# Altium footprint library Capacitors SMD.PcbLib: 115 footprints (part 1 of 8)
Each footprint in its own frame and in the unit in brackets; x right, y up, seen from the top. Pads: shape width x height; smd on the part's side, far side on the other; paste and mask are expansions set on the pad; w line width, h text height; cw(c..) or ccw(c..) is an arc to the next point about the centre after c.
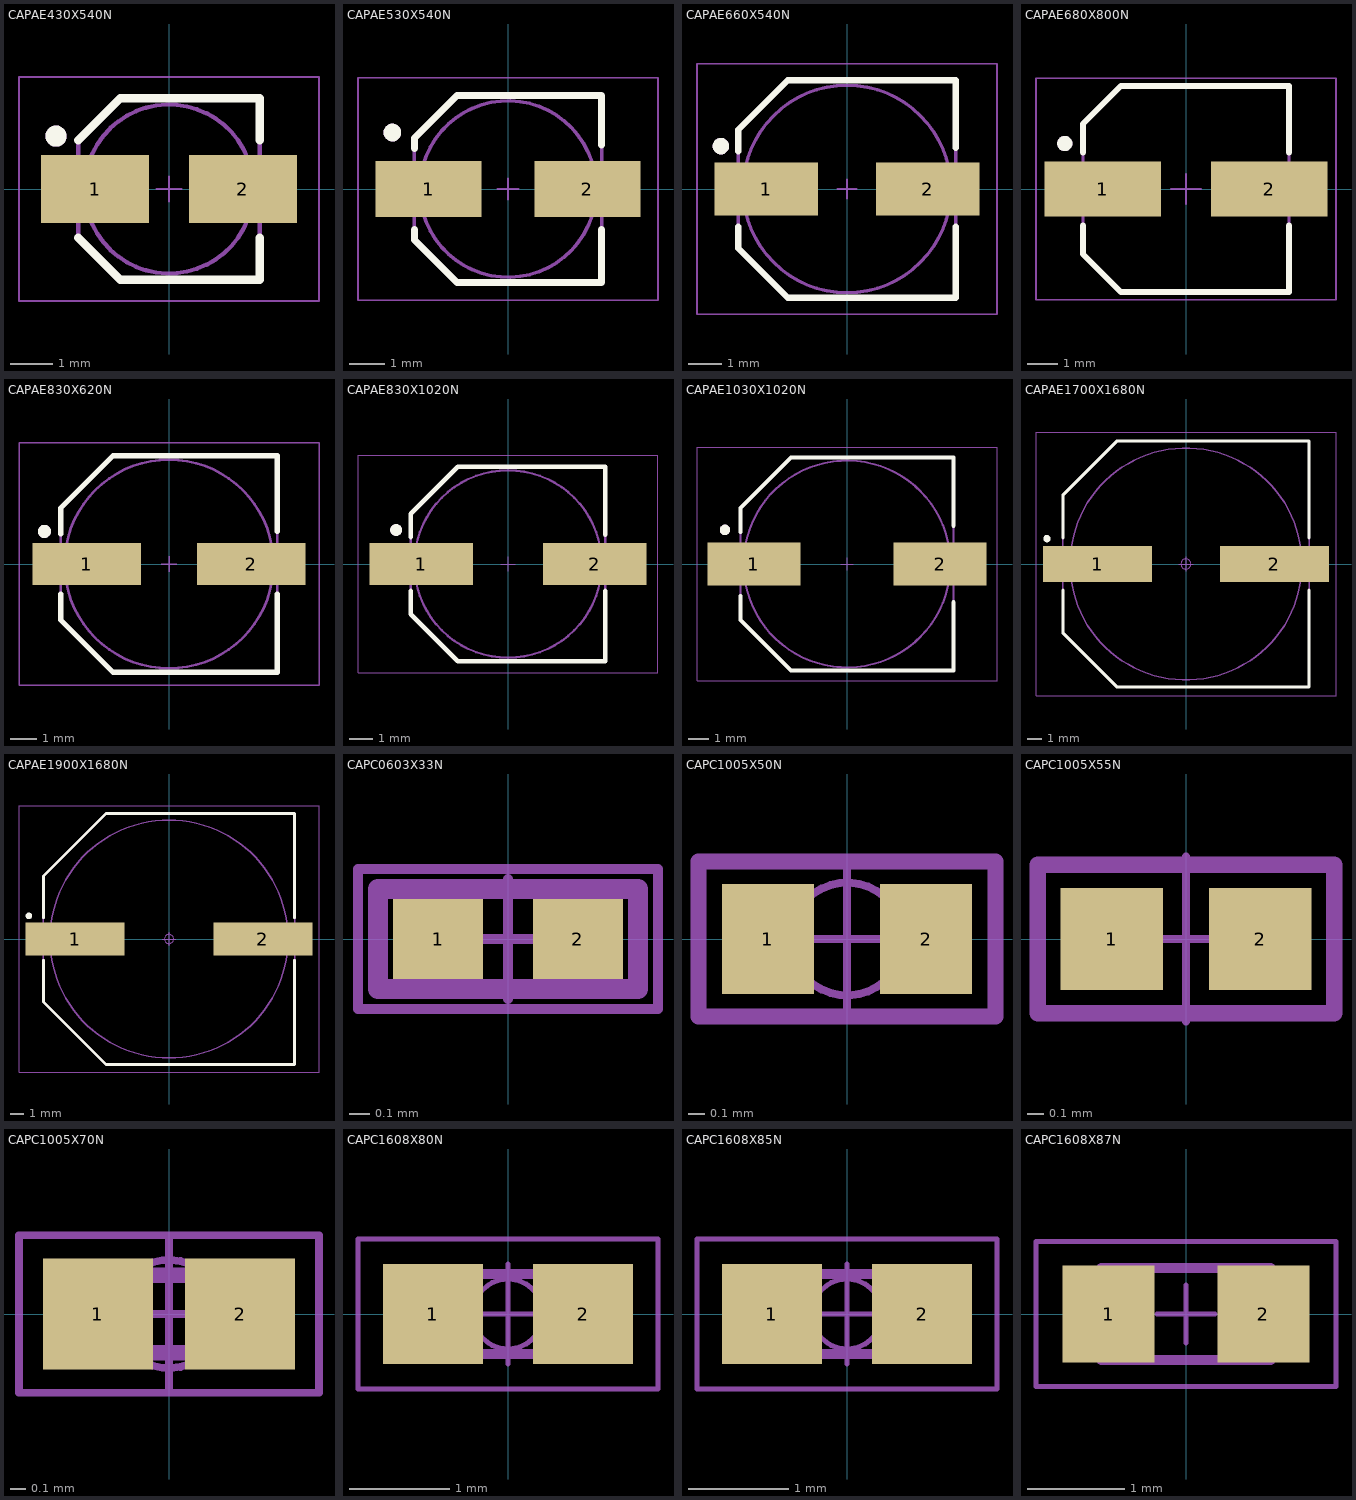
[diagram p0: the footprints below, top view; thin cyan lines are the x and y axes]

## CAPAE430X540N [mm] "Capacitor, Aluminium Electrolytric, 4.3mm L X 4.3mm W X 5.4mm H, IPC Medium Density"
height 5.4
pads (2):
  rect 2.55x1.6 smd: 1(-1.75,0) 2(1.75,0)
Top Overlay:
  circle w0.25: c-2.675,1.25 r0.125
  lines w0.2: -2.15,-1.15 -1.15,-2.15 2.15,-2.15 2.15,-1.15 ; -2.15,1.15 -1.15,2.15 2.15,2.15 2.15,1.15
Mechanical 14:
  circle w0.1: c0,0 r2
  circle w0.25: c-2.675,1.25 r0.125
  lines w0.1: -2.15,-1.15 -2.15,1.15 -1.15,2.15 2.15,2.15 2.15,-2.15 -1.15,-2.15 -2.15,-1.15
Mechanical 15:
  lines w0.05: -0.3,0 0.3,0 ; 0,-0.3 0,0.3 ; -3.55,-2.65 3.55,-2.65 3.55,2.65 -3.55,2.65 -3.55,-2.65
3D body "CAPAE430X540N.stp": height 5.7, standoff 0, extent -2.75,-2.25 2.75,2.25

## CAPAE530X540N [mm] "Capacitor, Aluminium Electrolytric, 5.3mm L X 5.3mm W X 5.4mm H, IPC Medium Density"
height 5.4
pads (2):
  rect 3x1.6 smd: 1(-2.25,0) 2(2.25,0)
Top Overlay:
  circle w0.25: c-3.275,1.6 r0.125
  lines w0.2: -2.65,-1.15 -2.65,-1.45 -1.45,-2.65 2.65,-2.65 2.65,-1.15 ; -2.65,1.15 -2.65,1.45 -1.45,2.65 2.65,2.65 2.65,1.25
Mechanical 14:
  circle w0.25: c-3.275,1.6 r0.125
  circle w0.1: c0,0 r2.5
  lines w0.1: -2.65,-1.45 -1.45,-2.65 2.65,-2.65 2.65,2.65 -1.45,2.65 -2.65,1.45 -2.65,-1.45
Mechanical 15:
  lines w0.05: -0.3,0 0.3,0 ; 0,-0.3 0,0.3 ; -4.25,-3.15 -4.25,3.15 4.25,3.15 4.25,-3.15 -4.25,-3.15
3D body "CAPAE530X540N.stp": height 5.7, standoff 0, extent -3.25,-2.75 3.25,2.75

## CAPAE660X540N [mm] "Capacitor, Aluminium Electrolytric, 6.6mm L X 6.6mm W X 5.4mm H, IPC Medium Density"
height 5.4
pads (2):
  rect 3.15x1.6 smd: 1(-2.45,0) 2(2.45,0)
Top Overlay:
  circle w0.25: c-3.825,1.3 r0.125
  lines w0.2: -3.3,-1.15 -3.3,-1.8 -1.8,-3.3 3.3,-3.3 3.3,-1.15 ; -3.3,1.15 -3.3,1.8 -1.8,3.3 3.3,3.3 3.3,1.25
Mechanical 14:
  circle w0.25: c-3.825,1.3 r0.125
  circle w0.1: c0,0 r3.15
  lines w0.1: -3.3,-1.8 -1.8,-3.3 3.3,-3.3 3.3,3.3 -1.8,3.3 -3.3,1.8 -3.3,-1.8
Mechanical 15:
  lines w0.05: -0.3,0 0.3,0 ; 0,-0.3 0,0.3 ; -4.55,-3.8 -4.55,3.8 4.55,3.8 4.55,-3.8 -4.55,-3.8
3D body "CAPAE660X540N.stp": height 5.7, standoff 0, extent -3.9,-3.4 3.9,3.4

## CAPAE680X800N [mm] "Capacitor, Aluminium Electrolytric, 6.8mm L X 6.8mm W X 8mm H, IPC Medium Density"
height 8
pads (2):
  rect 3.85x1.8 smd: 1(-2.75,0) 2(2.75,0)
Top Overlay:
  circle w0.25: c-4,1.5 r0.125
  lines w0.2: -3.4,-1.2 -3.4,-2.15 -2.15,-3.4 3.4,-3.4 3.4,-1.2 ; -3.4,1.2 -3.4,2.15 -2.15,3.4 3.4,3.4 3.4,1.2
Mechanical 14:
  circle w0.25: c-4,1.5 r0.125
  lines w0.1: -3.4,-2.15 -3.4,2.15 -2.15,3.4 3.4,3.4 3.4,-3.4 -2.15,-3.4 -3.4,-2.15
Mechanical 15:
  lines w0.05: -0.5,0 0.5,0 ; 0,-0.5 0,0.5 ; -4.95,-3.65 4.95,-3.65 4.95,3.65 -4.95,3.65 -4.95,-3.65
3D body "CAPAE680X800N.stp": height 8, standoff 0, extent -3.5,-3.4 3.5,3.4

## CAPAE830X620N [mm] "Capacitor, Aluminium Electrolytric, 8.3mm L X 8.3mm W X 6.2mm H, IPC Medium Density"
height 6.2
pads (2):
  rect 4.15x1.6 smd: 1(-3.15,0) 2(3.15,0)
Top Overlay:
  circle w0.25: c-4.775,1.25 r0.125
  lines w0.2: -4.15,-1.15 -4.15,-2.15 -2.15,-4.15 4.15,-4.15 4.15,-1.15 ; -4.15,1.15 -4.15,2.15 -2.15,4.15 4.15,4.15 4.15,1.25
Mechanical 14:
  circle w0.25: c-4.774,1.251 r0.125
  circle w0.1: c0,0 r4
  lines w0.1: -4.15,-2.15 -2.15,-4.15 4.15,-4.15 4.15,4.15 -2.15,4.15 -4.15,2.15 -4.15,-2.15
Mechanical 15:
  lines w0.05: -0.3,0 0.3,0 ; 0,-0.3 0,0.3 ; -5.75,-4.65 -5.75,4.65 5.75,4.65 5.75,-4.65 -5.75,-4.65
3D body "CAPAE830X620N.stp": height 6.2, standoff 0, extent -4.75,-4.25 4.75,4.25

## CAPAE830X1020N [mm] "Capacitor, Aluminium Electrolytric, 8.3mm L X 8.3mm W X 10.2mm H, IPC Medium Density"
height 10.2
pads (2):
  rect 4.4x1.8 smd: 1(-3.7,0) 2(3.7,0)
Top Overlay:
  circle w0.25: c-4.775,1.45 r0.125
  lines w0.2: -4.15,-1.15 -4.15,-2.15 -2.15,-4.15 4.15,-4.15 4.15,-1.15 ; -4.15,1.15 -4.15,2.15 -2.15,4.15 4.15,4.15 4.15,1.25
Mechanical 14:
  circle w0.1: c0,0 r4
  circle w0.25: c-4.775,1.45 r0.125
  lines w0.1: -4.15,-2.15 -4.15,2.15 -2.15,4.15 4.15,4.15 4.15,-4.15 -2.15,-4.15 -4.15,-2.15
Mechanical 15:
  lines w0.05: -0.3,0 0.3,0 ; 0,-0.3 0,0.3 ; -6.4,-4.65 6.4,-4.65 6.4,4.65 -6.4,4.65 -6.4,-4.65
3D body "CAPAE830X1020N.stp": height 10.2, standoff 0, extent -4.75,-4.25 5.25,4.25

## CAPAE1030X1020N [mm] "Capacitor, Aluminium Electrolytric, 10.3mm L X 10.3mm W X 10.2mm H, IPC Medium Density"
height 10.2
pads (2):
  rect 4.5x2.1 smd: 1(-4.5,0) 2(4.5,0)
Top Overlay:
  circle w0.25: c-5.9,1.65 r0.125
  lines w0.2: -5.15,-1.55 -5.15,-2.35 -5.15,-2.7 -2.7,-5.15 5.15,-5.15 5.15,-1.85 ; -5.15,1.55 -5.15,2.7 -2.7,5.15 5.15,5.15 5.15,1.85
Mechanical 14:
  circle w0.25: c-5.899,1.651 r0.125
  circle w0.1: c0,0 r5
  lines w0.1: -5.15,-2.7 -5.15,2.7 -2.7,5.15 5.15,5.15 5.15,-5.15 -2.7,-5.15 -5.15,-2.7
Mechanical 15:
  lines w0.05: -0.3,0 0.3,0 ; 0,-0.3 0,0.3 ; -7.25,-5.65 7.25,-5.65 7.25,5.65 -7.25,5.65 -7.25,-5.65
3D body "CAPAE1030X1020N.stp": height 10.2, standoff 0, extent -6,-5.25 6,5.25

## CAPAE1700X1680N [mm] "Capacitor,Aluminum Electrolytic; 17.00mm L X 17.00mm W X 16.80mm H , IPC Medium Density"
height 16.8
pads (2):
  rect 7.5x2.5 smd: 1(-6.1,0) 2(6.1,0)
Top Overlay:
  circle w0.25: c-9.6,1.75 r0.125
  lines w0.2: -8.5,-1.8 -8.5,-4.75 -4.75,-8.5 8.5,-8.5 8.5,-1.8 ; -8.5,1.8 -8.5,4.75 -4.75,8.5 8.5,8.5 8.5,1.8
Mechanical 8:
  circle w0.05: c0,0 r0.35
  lines w0.05: -0.5,0 0.5,0 ; 0,-0.5 0,0.5
Mechanical 14:
  circle w0.1: c0,0 r8
  lines w0.1: -8.5,-4.75 -8.5,4.75 -4.75,8.5 8.5,8.5 8.5,-8.5 -4.75,-8.5 -8.5,-4.75
Mechanical 15:
  lines w0.05: -10.35,-9.1 -10.35,9.1 10.35,9.1 10.35,-9.1 -10.35,-9.1
3D body "CAPAE1700X1680N.stp": height 16.8, standoff 0, extent -9.3,-8.6 9.3,8.6

## CAPAE1900X1680N [mm] "Capacitor,Aluminum Electrolytic; 19.00mm L X 19.00mm W X 16.80mm H , IPC Medium Density"
height 16.8
pads (2):
  rect 7.5x2.5 smd: 1(-7.1,0) 2(7.1,0)
Top Overlay:
  circle w0.25: c-10.6,1.75 r0.125
  lines w0.2: -9.5,-1.6 -9.5,-4.75 -4.75,-9.5 9.5,-9.5 9.5,-1.6 ; -9.5,1.6 -9.5,4.75 -4.75,9.5 9.5,9.5 9.5,1.6
Mechanical 8:
  circle w0.05: c0,0 r0.35
  lines w0.05: -0.5,0 0.5,0 ; 0,-0.5 0,0.5
Mechanical 14:
  circle w0.1: c0,0 r9
  lines w0.1: -9.5,-4.75 -4.75,-9.5 9.5,-9.5 9.5,9.5 -4.75,9.5 -9.5,4.75 -9.5,-4.75
Mechanical 15:
  lines w0.05: -11.35,-10.1 11.35,-10.1 11.35,10.1 -11.35,10.1 -11.35,-10.1
3D body "CAPAE1900X1680N.stp": height 16.8, standoff 0, extent -10.5,-9.6 10.5,9.6

## CAPC0603X33N [mm] "Chip Capacitor, Body 0.6x0.30mm, IPC Medium Density"
height 0.33
pads (2):
  rect 0.45x0.4 smd: 1(-0.35,0) 2(0.35,0)
Mechanical 14:
  lines w0.1: -0.65,-0.25 0.65,-0.25 0.65,0.25 -0.65,0.25 -0.65,-0.25
Mechanical 15:
  lines w0.05: -0.3,0 0.3,0 ; 0,-0.3 0,0.3 ; -0.75,-0.35 0.75,-0.35 0.75,0.35 -0.75,0.35 -0.75,-0.35
3D body "CAPC0603X33N.stp": height 0.33, standoff 0, extent -0.315,-0.165 0.315,0.165

## CAPC1005X50N [mm] "Chip Capacitor, Body 1.0x0.55mm, IPC Medium Density"
height 0.5
pads (2):
  rect 0.57x0.68 smd: 1(-0.49,0) 2(0.49,0)
Mechanical 14:
  lines w0.1: -0.92,-0.48 0.92,-0.48 0.92,0.48 -0.92,0.48 -0.92,-0.48
Mechanical 15:
  circle w0.05: c0,0 r0.35
  lines w0.05: -0.5,0 0.5,0 ; 0,-0.5 0,0.5 ; -0.93,-0.49 0.93,-0.49 0.93,0.49 -0.93,0.49 -0.93,-0.49
3D body "CAPC1005X50N.stp": height 0.5, standoff 0, extent -0.5,-0.275 0.5,0.275

## CAPC1005X55N [mm] "Chip Capacitor, Body 1.0x0.55mm, IPC Medium Density"
height 0.55
pads (2):
  rect 0.62x0.62 smd: 1(-0.45,0) 2(0.45,0)
Mechanical 14:
  lines w0.1: -0.9,-0.45 -0.9,0.45 0.9,0.45 0.9,-0.45 -0.9,-0.45
Mechanical 15:
  lines w0.05: -0.5,0 0.5,0 ; 0,-0.5 0,0.5 ; -0.91,-0.46 -0.91,0.46 0.91,0.46 0.91,-0.46 -0.91,-0.46
3D body "CAPC1005X55N.stp": height 0.55, standoff 0, extent -0.525,-0.275 0.525,0.275

## CAPC1005X70N [mm] "Capacitor, Non-Polarized, Chip; 1.00mm L X 0.50mm W X 0.70mm H, IPC Medium Density"
height 0.7
pads (2):
  rect 0.71x0.72 smd: 1(-0.46,0) 2(0.46,0)
Mechanical 14:
  lines w0.1: -0.5,-0.25 0.5,-0.25 0.5,0.25 -0.5,0.25 -0.5,-0.25
Mechanical 15:
  circle w0.05: c0,0 r0.35
  lines w0.05: -0.5,0 0.5,0 ; 0,-0.5 0,0.5 ; -0.97,-0.51 0.97,-0.51 0.97,0.51 -0.97,0.51 -0.97,-0.51
3D body "CAPC1005X70N.stp": height 0.7, standoff 0, extent -0.6,-0.35 0.6,0.35

## CAPC1608X80N [mm] "Chip Capacitor, Body 1.6x0.8mm IPC Medium Density"
height 0.8
pads (2):
  rect 1x1 smd: 1(-0.75,0) 2(0.75,0)
Mechanical 14:
  lines w0.1: -0.8,-0.4 0.8,-0.4 0.8,0.4 -0.8,0.4 -0.8,-0.4
Mechanical 15:
  circle w0.05: c0,0 r0.35
  lines w0.05: -0.5,0 0.5,0 ; 0,-0.5 0,0.5 ; -1.5,-0.75 1.5,-0.75 1.5,0.75 -1.5,0.75 -1.5,-0.75
3D body "CAPC1608X80N.stp": height 0.8, standoff 0, extent -0.875,-0.475 0.875,0.475

## CAPC1608X85N [mm] "Chip Capacitor, Body 1.6x0.8mm IPC Medium Density"
height 0.85
pads (2):
  rect 1x1 smd: 1(-0.75,0) 2(0.75,0)
Mechanical 14:
  lines w0.1: -0.8,-0.4 -0.8,0.4 0.8,0.4 0.8,-0.4 -0.8,-0.4
Mechanical 15:
  circle w0.05: c0,0 r0.35
  lines w0.05: -0.5,0 0.5,0 ; 0,-0.5 0,0.5 ; -1.5,-0.75 -1.5,0.75 1.5,0.75 1.5,-0.75 -1.5,-0.75
3D body "CAPC1608X85N.stp": height 0.85, standoff 0, extent -0.875,-0.475 0.875,0.475

## CAPC1608X87N [mm] "Chip Capacitor, Body 1.6x0.8mm IPC Medium Density"
height 0.87
pads (2):
  rect 0.95x1 smd: 1(-0.8,0) 2(0.8,0)
Mechanical 14:
  lines w0.1: -0.875,-0.475 -0.875,0.475 0.875,0.475 0.875,-0.475 -0.875,-0.475
Mechanical 15:
  lines w0.05: -0.3,0 0.3,0 ; 0,-0.3 0,0.3 ; -1.55,-0.75 1.55,-0.75 1.55,0.75 -1.55,0.75 -1.55,-0.75
3D body "CAPC1608X87N.stp": height 0.87, standoff 0, extent -0.875,-0.475 0.875,0.475